# Altium footprint library 105017-0001.PcbLib: 1 footprints
Each footprint in its own frame and in the unit in brackets; x right, y up, seen from the top. Pads: shape width x height; smd on the part's side, far side on the other; paste and mask are expansions set on the pad; w line width, h text height; cw(c..) or ccw(c..) is an arc to the next point about the centre after c.
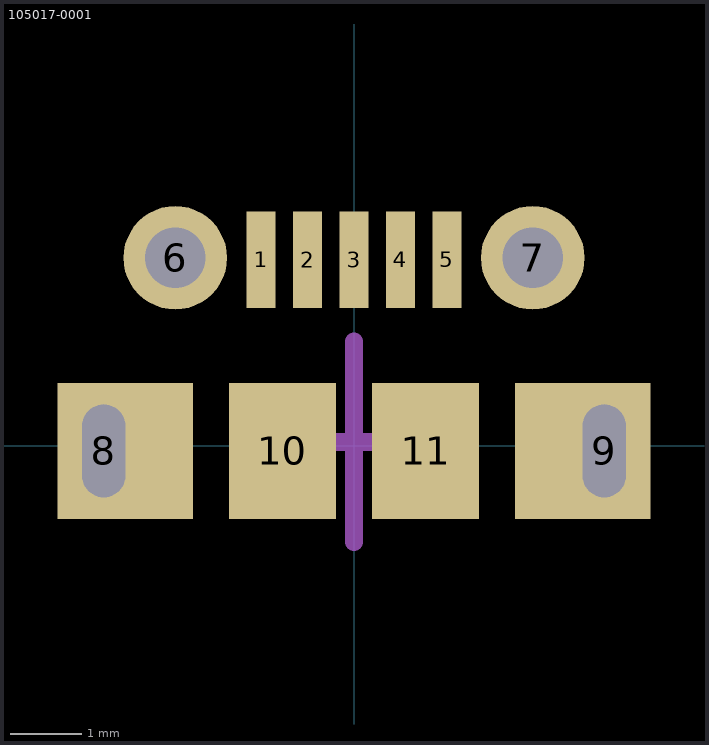
[diagram p0: the footprint, top view; thin cyan lines are the x and y axes]

## 105017-0001 [mm] "Molex 105017-0001"
pads (11):
  rect 0.4x1.35 smd: 1(-1.3,2.6) 2(-0.65,2.6) 3(0,2.6) 4(0.65,2.6) 5(1.3,2.6)
  round 1.45 hole 0.85: 6(-2.5,2.625) 7(2.5,2.625)
  rect 1.9x1.9 hole 0.6 slot 1.3 at 90 deg copper offset 0.3,0 mask+0: 8(-3.5,-0.075)
  rect 1.9x1.9 hole 0.6 slot 1.3 at 90 deg copper offset -0.3,0 mask+0: 9(3.5,-0.075)
  rect 1.5x1.9 smd: 10(-1,-0.075) 11(1,-0.075)
Mechanical 1:
  lines w0.254: -1.4,0.05 1.4,0.05 1.4,0.05 ; 0,-1.35 0,1.45
3D body "1050170001.stp": height 2.66, standoff -0.64, extent -4.1,-2.65 4.1,2.75